# EAGLE library part 74AC16373 (library 74ac-logic)
16-bit transparent D-type LATCH, 3-state
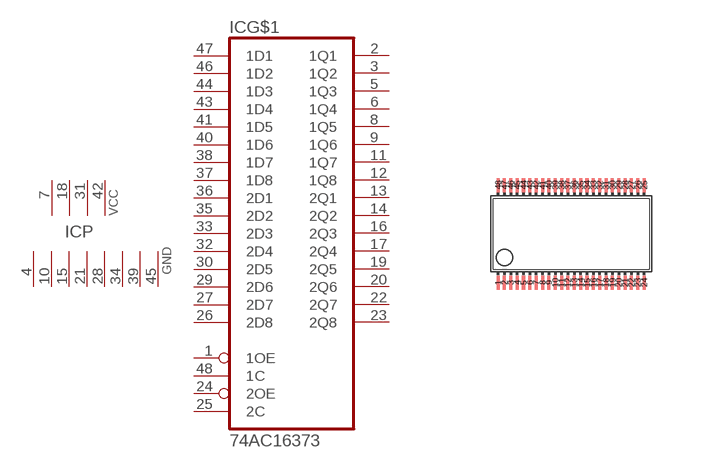
[diagram p68: symbol with the pads of SSOP48DL; footprint SSOP48DL]

Designator prefix IC; gates G$1=7416373 P=4PWR8GND

## 74AC16373  [SSOP48DL]
1  G$1:1OE  in
2  G$1:1Q1  hiz
3  G$1:1Q2  hiz
4  P:GND  pwr
5  G$1:1Q3  hiz
6  G$1:1Q4  hiz
7  P:VCC  pwr
8  G$1:1Q5  hiz
9  G$1:1Q6  hiz
10  P:GND  pwr
11  G$1:1Q7  hiz
12  G$1:1Q8  hiz
13  G$1:2Q1  hiz
14  G$1:2Q2  hiz
15  P:GND  pwr
16  G$1:2Q3  hiz
17  G$1:2Q4  hiz
18  P:VCC  pwr
19  G$1:2Q5  hiz
20  G$1:2Q6  hiz
21  P:GND  pwr
22  G$1:2Q7  hiz
23  G$1:2Q8  hiz
24  G$1:2OE  in
25  G$1:2C  in
26  G$1:2D8  in
27  G$1:2D7  in
28  P:GND  pwr
29  G$1:2D6  in
30  G$1:2D5  in
31  P:VCC  pwr
32  G$1:2D4  in
33  G$1:2D3  in
34  P:GND  pwr
35  G$1:2D2  in
36  G$1:2D1  in
37  G$1:1D8  in
38  G$1:1D7  in
39  P:GND  pwr
40  G$1:1D6  in
41  G$1:1D5  in
42  P:VCC  pwr
43  G$1:1D4  in
44  G$1:1D3  in
45  P:GND  pwr
46  G$1:1D2  in
47  G$1:1D1  in
48  G$1:1C  in

## Footprint SSOP48DL (pad centres in mm)
Shrink Small Outline Package
smd 0.076 x 0.356: 1 -1.746,-1.219; 2 -1.587,-1.219; 3 -1.429,-1.219; 4 -1.27,-1.219; 5 -1.111,-1.219; 6 -0.953,-1.219; 7 -0.794,-1.219; 8 -0.635,-1.219; 9 -0.476,-1.219; 10 -0.318,-1.219; 11 -0.159,-1.219; 12 0,-1.219; 13 0.159,-1.219; 14 0.318,-1.219; 15 0.476,-1.219; 16 0.635,-1.219; 17 0.794,-1.219; 18 0.953,-1.219; 19 1.111,-1.219; 20 1.27,-1.219; 21 1.429,-1.219; 22 1.587,-1.219; 23 1.746,-1.219; 24 1.905,-1.219; 25 1.905,1.219; 26 1.746,1.219; 27 1.587,1.219; 28 1.429,1.219; 29 1.27,1.219; 30 1.111,1.219; 31 0.953,1.219; 32 0.794,1.219; 33 0.635,1.219; 34 0.476,1.219; 35 0.318,1.219; 36 0.159,1.219; 37 0,1.219; 38 -0.159,1.219; 39 -0.318,1.219; 40 -0.476,1.219; 41 -0.635,1.219; 42 -0.794,1.219; 43 -0.953,1.219; 44 -1.111,1.219; 45 -1.27,1.219; 46 -1.429,1.219; 47 -1.587,1.219; 48 -1.746,1.219